# Altium schematic symbol library 1-Res_lib.SchLib: 12 symbols
Pins are listed as number, name and electrical type; pins without a type are passive.

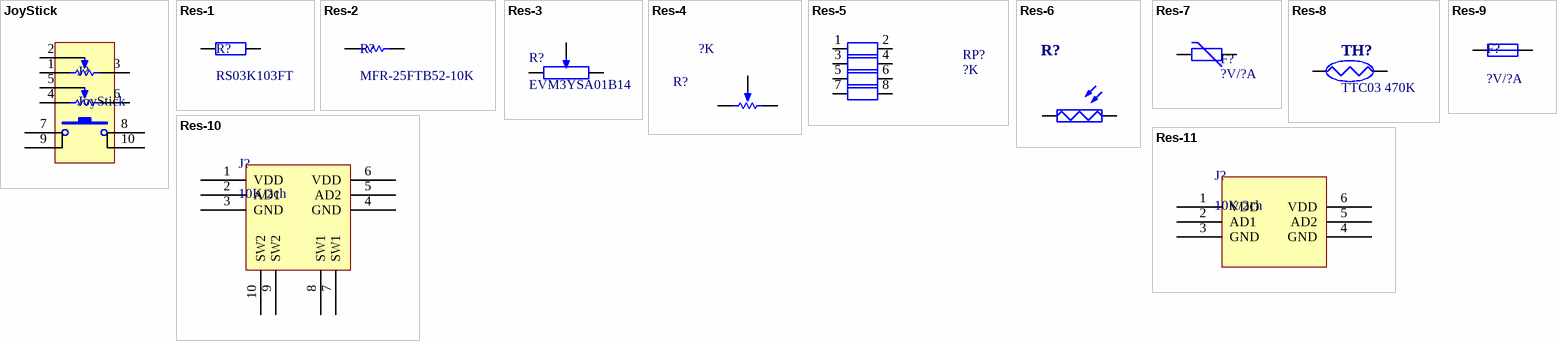
[diagram p0: symbols JoyStick to Res-11]

## JoyStick
designator J?
模拟摇杆
footprint JoyStick (模拟摇杆)
pins: 1 BOT, 2 TAP, 3 TOP, 4 BOT, 5 TAP, 6 TOP, 7, 8, 9, 10

## Res-1
designator R?, comment RS03K103FT
厚膜片式固定电阻器; 厂家: 风华高科; 版本: 2015-V1.0; 价格: 0.01; Value: ?K; 品名: 贴片电阻; 精度: 5%
footprint RES-0402
footprint RES-0603
footprint RES-0805
footprint RES-1206
footprint RES-2512
pins: 1, 2

## Res-2
designator R?, comment MFR-25FTB52-10K
金属膜导线电阻器; 厂家: 国巨电子; 版本: 2015-V1.0; 价格: 0.01; Value: ?K; 品名: 贴片电阻; 精度: 5%
footprint 1/4WA1
footprint 1/8WA
footprint 1/8WL
footprint AXAL-0_5-R
footprint AXIAL0_4
footprint AXIAL0_4_1
footprint AXIAL0_4_2
footprint AXIAL-0.3
footprint AXIAL-12.7*4MM
footprint AXIAL-20*5MM-W (2W电阻)
footprint AXIAL-22*6.6MM-W (2W电阻)
pins: 1, 2

## Res-3
designator R?, comment EVM3YSA01B14
片式微调电位器
footprint 3314J
footprint 3324W
pins: 1, 2, 3

## Res-4
designator R?, comment ?K
直插可调电位器; Value: ?K
footprint VR_A1 (Potentiometer; 3 Leads)
footprint VR_B1 (Potentiometer; 3 Leads)
footprint VR_B50K_S
footprint VR_3296
footprint VR_3296W
footprint VR_3362
pins: 1 TOP, 2 TAP, 3 BOT
1 alternate drawing of the same symbol

## Res-5
designator RP?, comment ?K
贴片排阻
footprint RP4-0603
footprint RP4-0603-2
footprint RP4_0603P
footprint RP4-0603-1
pins: 1, 2, 3, 4, 5, 6, 7, 8

## Res-6
designator R?
光敏电阻
pins: 1, 2

## Res-7
designator F?, comment ?V/?A
压敏电阻
footprint ZOV (压敏电阻)
footprint 10D471K
footprint 10k471
pins: 1, 2

## Res-8
designator TH?, comment TTC03 470K
热敏电阻
footprint NTC (热敏电阻)
footprint NTC-5D-9
pins: 1, 2

## Res-9
designator F?, comment ?V/?A
可熔断保险，保险丝、保险管类表示
footprint Fuse_M
footprint FUSE
footprint FUSE-14MM
footprint FUSE-15MM
footprint FUSE-17.78MM
footprint FUSE-30MM
footprint FUSE-L
footprint FUSE-15A
pins: 1, 2

## Res-10
designator J?, comment 10K/2ch
摇杆电位器,带按键
footprint YAOGAN_ANJIAN
pins: 1 VDD, 2 AD1, 3 GND, 4 GND, 5 AD2, 6 VDD, 7 SW1, 8 SW1, 9 SW2, 10 SW2

## Res-11
designator J?, comment 10K/2ch
摇杆电位器,不带按键
footprint YAOGAN
pins: 1 VDD, 2 AD1, 3 GND, 4 GND, 5 AD2, 6 VDD